# Altium integrated library Analog Devices Data Converters Digital-to-Analog Converters.IntLib: 2231 symbols (part 73 of 181)
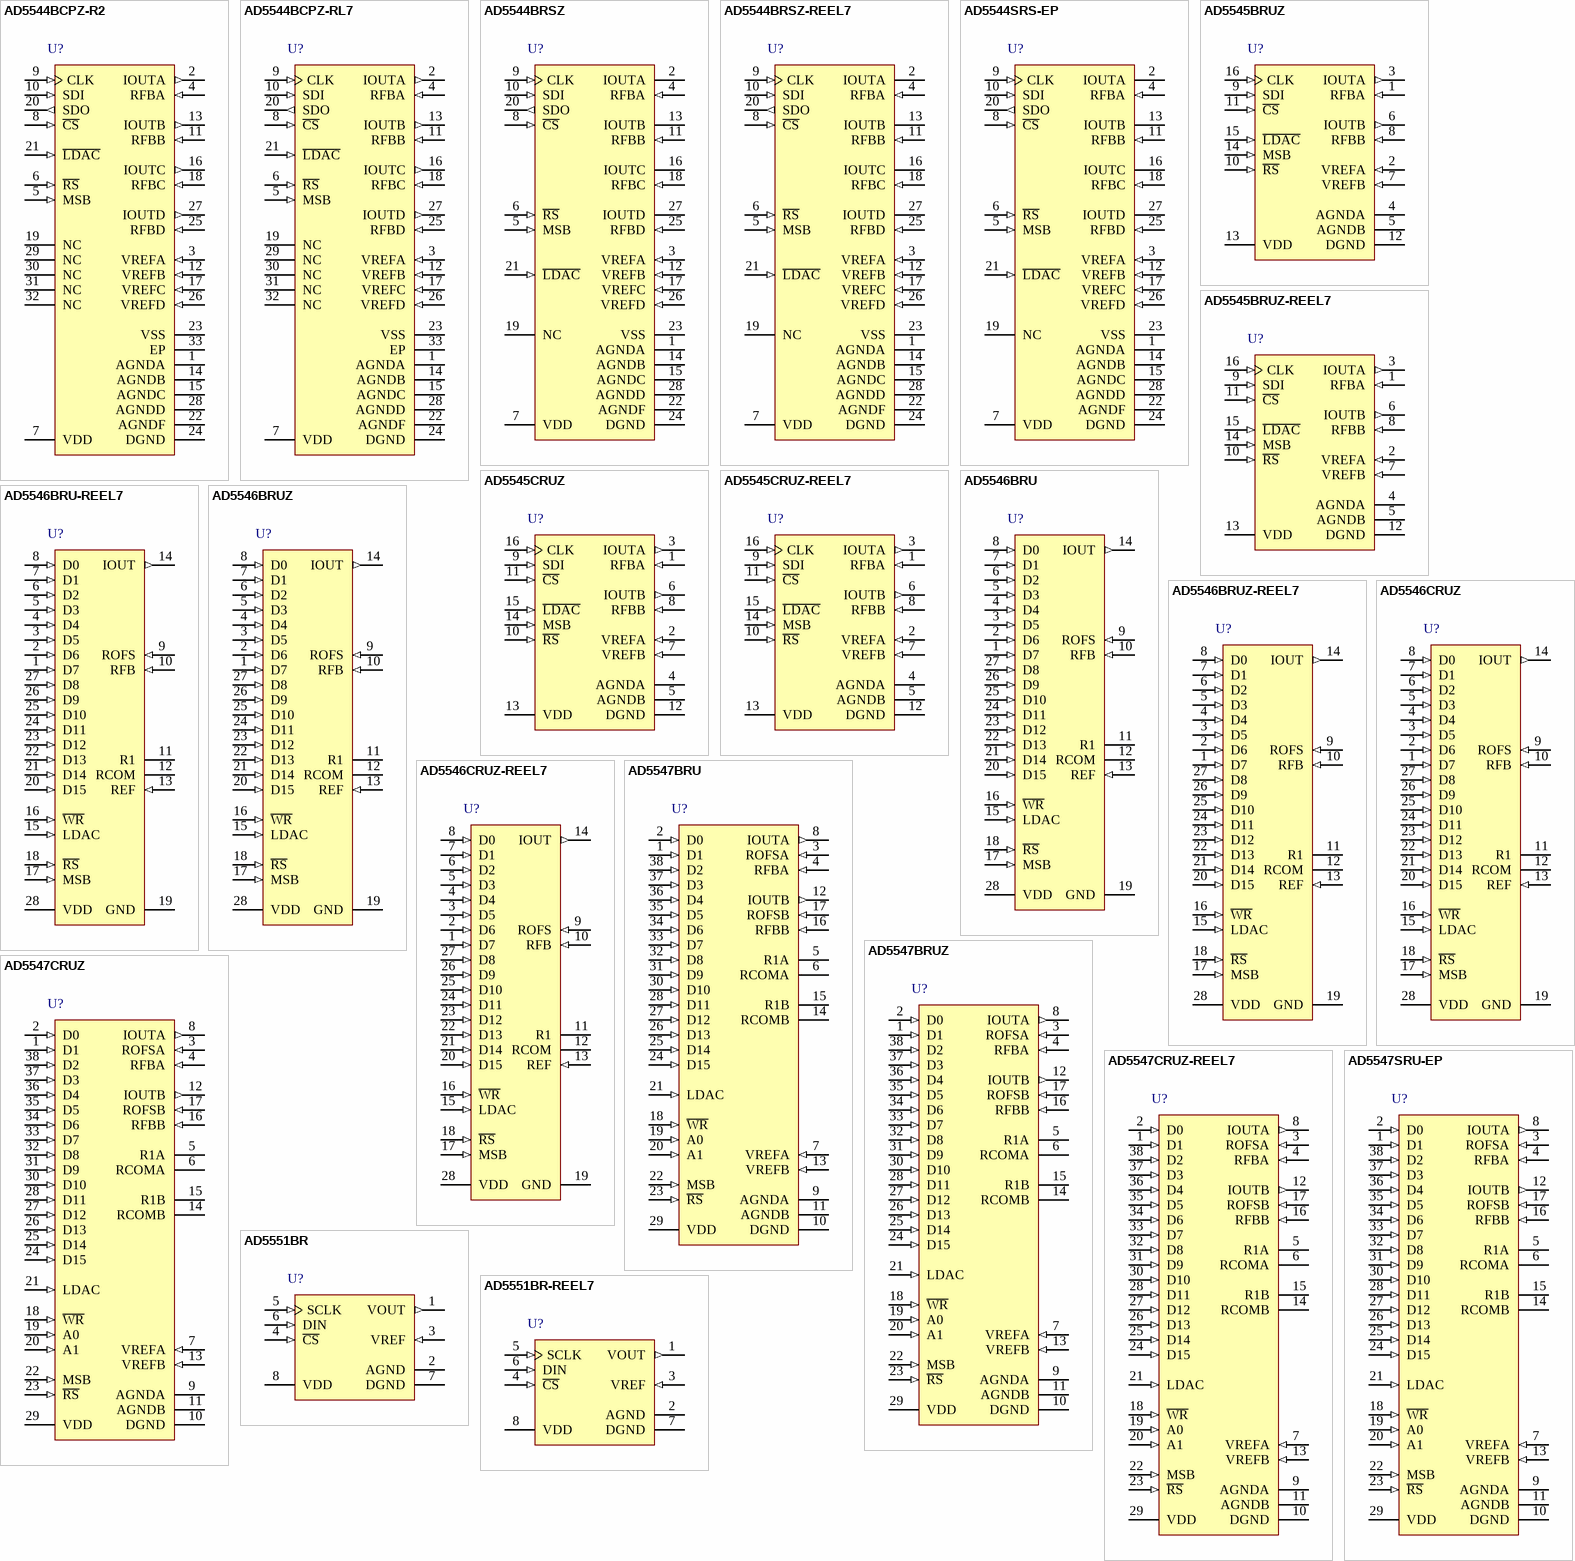
[diagram p186: symbols AD5544BCPZ-R2 to AD5551BR-REEL7]

## AD5546CRUZ
designator U?
Single 16-Bit Multiplying Current Output Digital-to-Analog Converter with Parallel Interface and Four-Quadrant Resistors, -40 to +125 degC, RU-28, Pb-Free, Tube; Generic Part Number: AD5546; Manufacturer: Analog Devices; PartNumber: AD5546CRUZ; # DAC Outputs: 1; Max V+: 5.5V; Op Pwr Diss: 55µW; Resolution (Bits): 16; Settling Time: 500ns; Single Supply: Yes; DatasheetVersion: Rev.D; PackageVersion: 2005; PackageReference: RU-28; PackageDescription: 28-Lead Thin Shrink Small Outline Package [TSSOP]; Supplier 1: Digi-Key; Supplier Part Number 1: AD5546CRUZ-ND; Supplier 2: Mouser; Supplier Part Number 2: 584-AD5546CRUZ; Packing: Tube; RoHS: Y; Mounting Technology: Surface Mount; Code_JEDEC: MO-153-AE; ComponentLink1Description: Manufacturer URL; ComponentLink1URL: http://www.analog.com/en/index.html; ComponentLink2Description: Datasheet; ComponentLink2URL: http://www.analog.com/static/imported-files/data_sheets/AD5546_5556.pdf; ComponentLink3Description: Package Specification; ComponentLink3URL: http://www.analog.com/static/imported-files/packages/249854663RU_28.pdf; ComponentLink4Description: Product URL; ComponentLink4URL: http://www.analog.com/en/digital-to-analog-converters/da-converters/ad5546/products/product.html; ComponentLink5Description: Reference Design URL; ComponentLink5URL: http://www.analog.com/en/digital-to-analog-converters/da-converters/ad5546/products/product.html#prod_cross_sell
footprint RU-28_N (TSOP, 28-Leads, Body 9.7x4.4mm, Pitch 0.65mm, IPC Medium Density)
footprint RU-28_L (TSOP, 28-Leads, Body 9.7x4.4mm, Pitch 0.65mm, IPC High Density)
footprint RU-28_M (TSOP, 28-Leads, Body 9.7x4.4mm, Pitch 0.65mm, IPC Low Density)
pins: 1 D7 (in) "Digital Input Data Bit D7. The signal level must be =< VDD + 0.3 V.", 2 D6 (in) "Digital Input Data Bit D6. The signal level must be =< VDD + 0.3 V.", 3 D5 (in) "Digital Input Data Bit D5. The signal level must be =< VDD + 0.3 V.", 4 D4 (in) "Digital Input Data Bit D4. The signal level must be =< VDD + 0.3 V.", 5 D3 (in) "Digital Input Data Bit D3. The signal level must be =< VDD + 0.3 V.", 6 D2 (in) "Digital Input Data Bit D2. The signal level must be =< VDD + 0.3 V.", 7 D1 (in) "Digital Input Data Bit D1. The signal level must be =< VDD + 0.3 V.", 8 D0 (in) "Digital Input Data Bit D0. The signal level must be =< VDD + 0.3 V.", 9 ROFS (in) "Bipolar Offset Resistor. Accepts up to +/-18 V. In two-quadrant mode, ties to RFB. In four-quadrant mode, ties to R1 and the external reference.", 10 RFB (in) "Internal Matching Feedback Resistor. Connects to the output of an external op amp for I-V conversion.", 11 R1 "Four-Quadrant Resistor R1. In two-quadrant mode, shorts to the REF pin. In four-quadrant mode, ties to ROFS.", 12 RCOM "Center Tap Point of Two Four-Quadrant Resistors, R1 and R2. In four-quadrant mode, ties to the inverting node of the reference amplifier. In two-quadrant mode, shorts to the REF pin.", 13 REF (in) "DAC Reference Input in Two-Quadrant Mode and R2 Terminal in Four-Quadrant Mode. In two-quadrant mode, this pin is the reference input with constant input resistance vs. code. In four-quadrant mode, this pin is driven by the (See Datasheet)", 14 IOUT (out) "DAC Current Output. Connects to the inverting node of an external op amp for I-V conversion.", 15 LDAC (in) "Digital Input Load DAC Control. Signal level must be =< VDD + 0.3 V.", 16 ~{WR} (in) "Write Control Digital Input in Active Low. Transfers shift-register data to the DAC register on the rising edge. The signal level must be . VDD + 0.3 V.", 17 MSB (in) "Power-On Reset State. MSB = 0 resets at zero scale; MSB = 1 resets at midscale. The signal level must be =< VDD + 0.3 V.", 18 ~{RS} (in) "Reset in Active Low. Resets to zero scale if MSB = 0, and resets to midscale if MSB = 1. The signal level must be =< VDD + 0.3 V.", 19 GND (power) "Analog and Digital Grounds.", 20 D15 (in) "Digital Input Data Bit D15. The signal level must be =< VDD + 0.3 V.", 21 D14 (in) "Digital Input Data Bit D14. The signal level must be =< VDD + 0.3 V.", 22 D13 (in) "Digital Input Data Bit D13. The signal level must be =< VDD + 0.3 V.", 23 D12 (in) "Digital Input Data Bit D12. The signal level must be =< VDD + 0.3 V.", 24 D11 (in) "Digital Input Data Bit D11. The signal level must be =< VDD + 0.3 V.", 25 D10 (in) "Digital Input Data Bit D10. The signal level must be =< VDD + 0.3 V.", 26 D9 (in) "Digital Input Data Bit D9. The signal level must be =< VDD + 0.3 V.", 27 D8 (in) "Digital Input Data Bit D8. The signal level must be =< VDD + 0.3 V.", 28 VDD (power) "Positive Power Supply Input. Specified range of operation: 2.7 V to 5.5 V."

## AD5546CRUZ-REEL7
designator U?
Single 16-Bit Multiplying Current Output Digital-to-Analog Converter with Parallel Interface and Four-Quadrant Resistors, -40 to +125 degC, RU-28, Pb-Free, Reel; Generic Part Number: AD5546; Manufacturer: Analog Devices; PartNumber: AD5546CRUZ-REEL7; # DAC Outputs: 1; Max V+: 5.5V; Op Pwr Diss: 55µW; Resolution (Bits): 16; Settling Time: 500ns; Single Supply: Yes; DatasheetVersion: Rev.D; PackageVersion: 2005; PackageReference: RU-28; PackageDescription: 28-Lead Thin Shrink Small Outline Package [TSSOP]; Supplier 1: Digi-Key; Supplier Part Number 1: AD5546CRUZ-REEL7-ND; Supplier 2: Mouser; Supplier Part Number 2: 584-AD5546CRUZ-R7; Packing: Reel; RoHS: Y; Mounting Technology: Surface Mount; Code_JEDEC: MO-153-AE; ComponentLink1Description: Manufacturer URL; ComponentLink1URL: http://www.analog.com/en/index.html; ComponentLink2Description: Datasheet; ComponentLink2URL: http://www.analog.com/static/imported-files/data_sheets/AD5546_5556.pdf; ComponentLink3Description: Package Specification; ComponentLink3URL: http://www.analog.com/static/imported-files/packages/249854663RU_28.pdf; ComponentLink4Description: Product URL; ComponentLink4URL: http://www.analog.com/en/digital-to-analog-converters/da-converters/ad5546/products/product.html; ComponentLink5Description: Reference Design URL; ComponentLink5URL: http://www.analog.com/en/digital-to-analog-converters/da-converters/ad5546/products/product.html#prod_cross_sell
footprint RU-28_N (TSOP, 28-Leads, Body 9.7x4.4mm, Pitch 0.65mm, IPC Medium Density)
footprint RU-28_L (TSOP, 28-Leads, Body 9.7x4.4mm, Pitch 0.65mm, IPC High Density)
footprint RU-28_M (TSOP, 28-Leads, Body 9.7x4.4mm, Pitch 0.65mm, IPC Low Density)
pins: 1 D7 (in) "Digital Input Data Bit D7. The signal level must be =< VDD + 0.3 V.", 2 D6 (in) "Digital Input Data Bit D6. The signal level must be =< VDD + 0.3 V.", 3 D5 (in) "Digital Input Data Bit D5. The signal level must be =< VDD + 0.3 V.", 4 D4 (in) "Digital Input Data Bit D4. The signal level must be =< VDD + 0.3 V.", 5 D3 (in) "Digital Input Data Bit D3. The signal level must be =< VDD + 0.3 V.", 6 D2 (in) "Digital Input Data Bit D2. The signal level must be =< VDD + 0.3 V.", 7 D1 (in) "Digital Input Data Bit D1. The signal level must be =< VDD + 0.3 V.", 8 D0 (in) "Digital Input Data Bit D0. The signal level must be =< VDD + 0.3 V.", 9 ROFS (in) "Bipolar Offset Resistor. Accepts up to +/-18 V. In two-quadrant mode, ties to RFB. In four-quadrant mode, ties to R1 and the external reference.", 10 RFB (in) "Internal Matching Feedback Resistor. Connects to the output of an external op amp for I-V conversion.", 11 R1 "Four-Quadrant Resistor R1. In two-quadrant mode, shorts to the REF pin. In four-quadrant mode, ties to ROFS.", 12 RCOM "Center Tap Point of Two Four-Quadrant Resistors, R1 and R2. In four-quadrant mode, ties to the inverting node of the reference amplifier. In two-quadrant mode, shorts to the REF pin.", 13 REF (in) "DAC Reference Input in Two-Quadrant Mode and R2 Terminal in Four-Quadrant Mode. In two-quadrant mode, this pin is the reference input with constant input resistance vs. code. In four-quadrant mode, this pin is driven by the (See Datasheet)", 14 IOUT (out) "DAC Current Output. Connects to the inverting node of an external op amp for I-V conversion.", 15 LDAC (in) "Digital Input Load DAC Control. Signal level must be =< VDD + 0.3 V.", 16 ~{WR} (in) "Write Control Digital Input in Active Low. Transfers shift-register data to the DAC register on the rising edge. The signal level must be . VDD + 0.3 V.", 17 MSB (in) "Power-On Reset State. MSB = 0 resets at zero scale; MSB = 1 resets at midscale. The signal level must be =< VDD + 0.3 V.", 18 ~{RS} (in) "Reset in Active Low. Resets to zero scale if MSB = 0, and resets to midscale if MSB = 1. The signal level must be =< VDD + 0.3 V.", 19 GND (power) "Analog and Digital Grounds.", 20 D15 (in) "Digital Input Data Bit D15. The signal level must be =< VDD + 0.3 V.", 21 D14 (in) "Digital Input Data Bit D14. The signal level must be =< VDD + 0.3 V.", 22 D13 (in) "Digital Input Data Bit D13. The signal level must be =< VDD + 0.3 V.", 23 D12 (in) "Digital Input Data Bit D12. The signal level must be =< VDD + 0.3 V.", 24 D11 (in) "Digital Input Data Bit D11. The signal level must be =< VDD + 0.3 V.", 25 D10 (in) "Digital Input Data Bit D10. The signal level must be =< VDD + 0.3 V.", 26 D9 (in) "Digital Input Data Bit D9. The signal level must be =< VDD + 0.3 V.", 27 D8 (in) "Digital Input Data Bit D8. The signal level must be =< VDD + 0.3 V.", 28 VDD (power) "Positive Power Supply Input. Specified range of operation: 2.7 V to 5.5 V."

## AD5547BRU
designator U?
Dual 16-Bit Multiplying Dual Current Output Digital-to-Analog Converter with Parallel Interface, -40 to +125 degC, RU-38, Tube; Generic Part Number: AD5547; Manufacturer: Analog Devices; PartNumber: AD5547BRU; # DAC Outputs: 2; Max V+: 5.5V; Op Pwr Diss: 55µW; Resolution (Bits): 16; Settling Time: 500ns; Single Supply: Yes; DatasheetVersion: Rev.C; PackageVersion: Mar-2003; PackageReference: RU-38; PackageDescription: 38-Lead Thin Shrink Small Outline Package [TSSOP]; Supplier 1: Digi-Key; Supplier Part Number 1: AD5547BRU-ND; Supplier 2: Mouser; Supplier Part Number 2: 584-AD5547BRU; Packing: Tube; RoHS: N; Mounting Technology: Surface Mount; Code_JEDEC: MS-153BD-1; ComponentLink1Description: Manufacturer URL; ComponentLink1URL: http://www.analog.com/en/index.html; ComponentLink2Description: Datasheet; ComponentLink2URL: http://www.analog.com/static/imported-files/data_sheets/AD5547_5557.pdf; ComponentLink3Description: Package Specification; ComponentLink3URL: http://www.analog.com/static/imported-files/packages/36817415413609854197792024125RU38.pdf; ComponentLink4Description: Product URL; ComponentLink4URL: http://www.analog.com/en/digital-to-analog-converters/da-converters/ad5547/products/product.html; ComponentLink5Description: Reference Design URL; ComponentLink5URL: http://www.analog.com/en/digital-to-analog-converters/da-converters/ad5547/products/product.html#prod_cross_sell
footprint RU-38_N (TSSOP, 38-Leads, Body 9.7x4.4mm, Pitch 0.5mm, IPC Medium Density)
footprint RU-38_L (TSSOP, 38-Leads, Body 9.7x4.4mm, Pitch 0.5mm, IPC High Density)
footprint RU-38_M (TSSOP, 38-Leads, Body 9.7x4.4mm, Pitch 0.5mm, IPC Low Density)
pins: 1 D1 (in) "Digital Input Data Bit D1. Signal level must be =< VDD + 0.3 V.", 2 D0 (in) "Digital Input Data Bit D0. Signal level must be =< VDD + 0.3 V.", 3 ROFSA (in) "Bipolar Offset Resistor A. Accepts up to +/-18 V. In 2-quadrant mode, ROFSA ties to RFBA. In 4-quadrant mode, ROFSA ties to R1A and the external reference.", 4 RFBA (in) "Internal Matching Feedback Resistor A. Connects to the external op amp for I-to-V conversion.", 5 R1A "4-Quandrant Resistor. In 2-quadrant mode, R1A shorts to the VREFA pin. In 4-quadrant mode, R1A ties to ROFSA. Do not connect when operating in unipolar mode.", 6 RCOMA "Center Tap Point of the Two 4-Quadrant Resistors, R1A and R2A. In 4-quadrant mode, RCOMA ties to the inverting node of the reference amplifier. In 2-quadrant mode, RCOMA shorts to the associated VREFA pin. Do not connect if (See Datasheet)", 7 VREFA (in) "DAC A Reference Input in 2-Quadrant Mode, R2 Terminal in 4-Quadrant Mode. In 2-quadrant mode, VREFA is the reference input with constant input resistance vs. code. In 4-quadrant mode, VREFA is driven by the external (See Datasheet)", 8 IOUTA (out) "DAC A Current Output. Connects to the inverting terminal of external precision I-to-V op amp for voltage output.", 9 AGNDA (power) "DAC A Analog Ground.", 10 DGND (power) "Digital Ground.", 11 AGNDB (power) "DAC B Analog Ground.", 12 IOUTB (out) "DAC B Current Output. Connects to inverting terminal of external precision I-to-V op amp for voltage output.", 13 VREFB (in) "DAC B Reference Input Pin. Establishes DAC full-scale voltage. Constant input resistance vs. code. If configured with an external op amp for 4-quadrant multiplying, VREFB becomes -VREF.", 14 RCOMB "Center Tap Point of the Two 4-Quadrant Resistors, R1B and R2B. In 4-quadrant mode, RCOMB ties to the inverting node of the reference amplifier. In 2-quadrant mode, RCOMB shorts to the VREFB pin. Do not connect if operating (See Datasheet)", 15 R1B "4-Quandrant Resistor. In 2-quadrant mode, R1B shorts to the VREFB pin. In 4-quadrant mode, R1B ties to ROFSB. Do not connect if operating in unipolar mode.", 16 RFBB (in) "Internal Matching Feedback Resistor B. Connects to external op amp for I-to-V conversion.", 17 ROFSB (in) "Bipolar Offset Resistor B. Accepts up to +/-18 V. In 2-quadrant mode, ROFSB ties to RFBB. In 4-quadrant mode, ROFSB ties to R1B and an external reference.", 18 ~{WR} (in) "Write Control Digital Input In, Active Low. W\R\ transfers shift register data to the DAC register on the rising edge. Signal level must be =<VDD + 0.3 V.", 19 A0 (in) "Address Pin 0. Signal level must be =<VDD + 0.3 V.", 20 A1 (in) "Address Pin 1. Signal level must be =<VDD + 0.3 V.", 21 LDAC (in) "Digital Input Load DAC Control. Signal level must be =<VDD + 0.3 V.", 22 MSB (in) "Power-On Reset State. MSB = 0 corresponds to zero-scale reset; MSB = 1 corresponds to midscale reset. The signal level must be =<VDD + 0.3 V.", 23 ~{RS} (in) "Active low resets both input and DAC registers. Resets to zero-scale if MSB = 0 and resets to midscale if MSB = 1. Signal level must be =<VDD + 0.3 V.", 24 D15 (in) "Digital Input Data Bit D15. Signal level must be =< VDD + 0.3 V.", 25 D14 (in) "Digital Input Data Bit D14. Signal level must be =< VDD + 0.3 V.", 26 D13 (in) "Digital Input Data Bit D13. Signal level must be =< VDD + 0.3 V.", 27 D12 (in) "Digital Input Data Bit D12. Signal level must be =< VDD + 0.3 V.", 28 D11 (in) "Digital Input Data Bit D11. Signal level must be =< VDD + 0.3 V.", 29 VDD (power) "Positive Power Supply Input. The specified range of operation is 2.7 V to 5.5 V.", 30 D10 (in) "Digital Input Data Bit D10. Signal level must be =< VDD + 0.3 V.", 31 D9 (in) "Digital Input Data Bit D9. Signal level must be =< VDD + 0.3 V.", 32 D8 (in) "Digital Input Data Bit D8. Signal level must be =< VDD + 0.3 V.", 33 D7 (in) "Digital Input Data Bit D7. Signal level must be =< VDD + 0.3 V.", 34 D6 (in) "Digital Input Data Bit D6. Signal level must be =< VDD + 0.3 V.", 35 D5 (in) "Digital Input Data Bit D5. Signal level must be =< VDD + 0.3 V.", 36 D4 (in) "Digital Input Data Bit D4. Signal level must be =< VDD + 0.3 V.", 37 D3 (in) "Digital Input Data Bit D3. Signal level must be =< VDD + 0.3 V.", 38 D2 (in) "Digital Input Data Bit D2. Signal level must be =< VDD + 0.3 V."

## AD5547BRUZ
designator U?
Dual 16-Bit Multiplying Dual Current Output Digital-to-Analog Converter with Parallel Interface, -40 to +125 degC, RU-38, Pb-Free, Tube; Generic Part Number: AD5547; Manufacturer: Analog Devices; PartNumber: AD5547BRUZ; # DAC Outputs: 2; Max V+: 5.5V; Op Pwr Diss: 55µW; Resolution (Bits): 16; Settling Time: 500ns; Single Supply: Yes; DatasheetVersion: Rev.C; PackageVersion: Mar-2003; PackageReference: RU-38; PackageDescription: 38-Lead Thin Shrink Small Outline Package [TSSOP]; Supplier 1: Digi-Key; Supplier Part Number 1: AD5547BRUZ-ND; Supplier 2: Farnell; Supplier Part Number 2: 1078348; Supplier 3: Newark; Supplier Part Number 3: 19M8817; Supplier 4: Mouser; Supplier Part Number 4: 584-AD5547BRUZ; Packing: Tube; RoHS: Y; Mounting Technology: Surface Mount; Code_JEDEC: MS-153BD-1; ComponentLink1Description: Manufacturer URL; ComponentLink1URL: http://www.analog.com/en/index.html; ComponentLink2Description: Datasheet; ComponentLink2URL: http://www.analog.com/static/imported-files/data_sheets/AD5547_5557.pdf; ComponentLink3Description: Package Specification; ComponentLink3URL: http://www.analog.com/static/imported-files/packages/36817415413609854197792024125RU38.pdf; ComponentLink4Description: Product URL; ComponentLink4URL: http://www.analog.com/en/digital-to-analog-converters/da-converters/ad5547/products/product.html; ComponentLink5Description: Reference Design URL; ComponentLink5URL: http://www.analog.com/en/digital-to-analog-converters/da-converters/ad5547/products/product.html#prod_cross_sell
footprint RU-38_N (TSSOP, 38-Leads, Body 9.7x4.4mm, Pitch 0.5mm, IPC Medium Density)
footprint RU-38_L (TSSOP, 38-Leads, Body 9.7x4.4mm, Pitch 0.5mm, IPC High Density)
footprint RU-38_M (TSSOP, 38-Leads, Body 9.7x4.4mm, Pitch 0.5mm, IPC Low Density)
pins: 1 D1 (in) "Digital Input Data Bit D1. Signal level must be =< VDD + 0.3 V.", 2 D0 (in) "Digital Input Data Bit D0. Signal level must be =< VDD + 0.3 V.", 3 ROFSA (in) "Bipolar Offset Resistor A. Accepts up to +/-18 V. In 2-quadrant mode, ROFSA ties to RFBA. In 4-quadrant mode, ROFSA ties to R1A and the external reference.", 4 RFBA (in) "Internal Matching Feedback Resistor A. Connects to the external op amp for I-to-V conversion.", 5 R1A "4-Quandrant Resistor. In 2-quadrant mode, R1A shorts to the VREFA pin. In 4-quadrant mode, R1A ties to ROFSA. Do not connect when operating in unipolar mode.", 6 RCOMA "Center Tap Point of the Two 4-Quadrant Resistors, R1A and R2A. In 4-quadrant mode, RCOMA ties to the inverting node of the reference amplifier. In 2-quadrant mode, RCOMA shorts to the associated VREFA pin. Do not connect if (See Datasheet)", 7 VREFA (in) "DAC A Reference Input in 2-Quadrant Mode, R2 Terminal in 4-Quadrant Mode. In 2-quadrant mode, VREFA is the reference input with constant input resistance vs. code. In 4-quadrant mode, VREFA is driven by the external (See Datasheet)", 8 IOUTA (out) "DAC A Current Output. Connects to the inverting terminal of external precision I-to-V op amp for voltage output.", 9 AGNDA (power) "DAC A Analog Ground.", 10 DGND (power) "Digital Ground.", 11 AGNDB (power) "DAC B Analog Ground.", 12 IOUTB (out) "DAC B Current Output. Connects to inverting terminal of external precision I-to-V op amp for voltage output.", 13 VREFB (in) "DAC B Reference Input Pin. Establishes DAC full-scale voltage. Constant input resistance vs. code. If configured with an external op amp for 4-quadrant multiplying, VREFB becomes -VREF.", 14 RCOMB "Center Tap Point of the Two 4-Quadrant Resistors, R1B and R2B. In 4-quadrant mode, RCOMB ties to the inverting node of the reference amplifier. In 2-quadrant mode, RCOMB shorts to the VREFB pin. Do not connect if operating (See Datasheet)", 15 R1B "4-Quandrant Resistor. In 2-quadrant mode, R1B shorts to the VREFB pin. In 4-quadrant mode, R1B ties to ROFSB. Do not connect if operating in unipolar mode.", 16 RFBB (in) "Internal Matching Feedback Resistor B. Connects to external op amp for I-to-V conversion.", 17 ROFSB (in) "Bipolar Offset Resistor B. Accepts up to +/-18 V. In 2-quadrant mode, ROFSB ties to RFBB. In 4-quadrant mode, ROFSB ties to R1B and an external reference.", 18 ~{WR} (in) "Write Control Digital Input In, Active Low. W\R\ transfers shift register data to the DAC register on the rising edge. Signal level must be =<VDD + 0.3 V.", 19 A0 (in) "Address Pin 0. Signal level must be =<VDD + 0.3 V.", 20 A1 (in) "Address Pin 1. Signal level must be =<VDD + 0.3 V.", 21 LDAC (in) "Digital Input Load DAC Control. Signal level must be =<VDD + 0.3 V.", 22 MSB (in) "Power-On Reset State. MSB = 0 corresponds to zero-scale reset; MSB = 1 corresponds to midscale reset. The signal level must be =<VDD + 0.3 V.", 23 ~{RS} (in) "Active low resets both input and DAC registers. Resets to zero-scale if MSB = 0 and resets to midscale if MSB = 1. Signal level must be =<VDD + 0.3 V.", 24 D15 (in) "Digital Input Data Bit D15. Signal level must be =< VDD + 0.3 V.", 25 D14 (in) "Digital Input Data Bit D14. Signal level must be =< VDD + 0.3 V.", 26 D13 (in) "Digital Input Data Bit D13. Signal level must be =< VDD + 0.3 V.", 27 D12 (in) "Digital Input Data Bit D12. Signal level must be =< VDD + 0.3 V.", 28 D11 (in) "Digital Input Data Bit D11. Signal level must be =< VDD + 0.3 V.", 29 VDD (power) "Positive Power Supply Input. The specified range of operation is 2.7 V to 5.5 V.", 30 D10 (in) "Digital Input Data Bit D10. Signal level must be =< VDD + 0.3 V.", 31 D9 (in) "Digital Input Data Bit D9. Signal level must be =< VDD + 0.3 V.", 32 D8 (in) "Digital Input Data Bit D8. Signal level must be =< VDD + 0.3 V.", 33 D7 (in) "Digital Input Data Bit D7. Signal level must be =< VDD + 0.3 V.", 34 D6 (in) "Digital Input Data Bit D6. Signal level must be =< VDD + 0.3 V.", 35 D5 (in) "Digital Input Data Bit D5. Signal level must be =< VDD + 0.3 V.", 36 D4 (in) "Digital Input Data Bit D4. Signal level must be =< VDD + 0.3 V.", 37 D3 (in) "Digital Input Data Bit D3. Signal level must be =< VDD + 0.3 V.", 38 D2 (in) "Digital Input Data Bit D2. Signal level must be =< VDD + 0.3 V."

## AD5547CRUZ
designator U?
Dual 16-Bit Multiplying Dual Current Output Digital-to-Analog Converter with Parallel Interface, -40 to +125 degC, RU-38, Pb-Free, Tube; Generic Part Number: AD5547; Manufacturer: Analog Devices; PartNumber: AD5547CRUZ; # DAC Outputs: 2; Max V+: 5.5V; Op Pwr Diss: 55µW; Resolution (Bits): 16; Settling Time: 500ns; Single Supply: Yes; DatasheetVersion: Rev.C; PackageVersion: Mar-2003; PackageReference: RU-38; PackageDescription: 38-Lead Thin Shrink Small Outline Package [TSSOP]; Supplier 1: Digi-Key; Supplier Part Number 1: AD5547CRUZ-ND; Supplier 2: Farnell; Supplier Part Number 2: 2312767; Supplier 3: Newark; Supplier Part Number 3: 51R0726; Packing: Tube; RoHS: Y; Mounting Technology: Surface Mount; Code_JEDEC: MS-153BD-1; ComponentLink1Description: Manufacturer URL; ComponentLink1URL: http://www.analog.com/en/index.html; ComponentLink2Description: Datasheet; ComponentLink2URL: http://www.analog.com/static/imported-files/data_sheets/AD5547_5557.pdf; ComponentLink3Description: Package Specification; ComponentLink3URL: http://www.analog.com/static/imported-files/packages/36817415413609854197792024125RU38.pdf; ComponentLink4Description: Product URL; ComponentLink4URL: http://www.analog.com/en/digital-to-analog-converters/da-converters/ad5547/products/product.html; ComponentLink5Description: Reference Design URL; ComponentLink5URL: http://www.analog.com/en/digital-to-analog-converters/da-converters/ad5547/products/product.html#prod_cross_sell
footprint RU-38_N (TSSOP, 38-Leads, Body 9.7x4.4mm, Pitch 0.5mm, IPC Medium Density)
footprint RU-38_L (TSSOP, 38-Leads, Body 9.7x4.4mm, Pitch 0.5mm, IPC High Density)
footprint RU-38_M (TSSOP, 38-Leads, Body 9.7x4.4mm, Pitch 0.5mm, IPC Low Density)
pins: 1 D1 (in) "Digital Input Data Bit D1. Signal level must be =< VDD + 0.3 V.", 2 D0 (in) "Digital Input Data Bit D0. Signal level must be =< VDD + 0.3 V.", 3 ROFSA (in) "Bipolar Offset Resistor A. Accepts up to +/-18 V. In 2-quadrant mode, ROFSA ties to RFBA. In 4-quadrant mode, ROFSA ties to R1A and the external reference.", 4 RFBA (in) "Internal Matching Feedback Resistor A. Connects to the external op amp for I-to-V conversion.", 5 R1A "4-Quandrant Resistor. In 2-quadrant mode, R1A shorts to the VREFA pin. In 4-quadrant mode, R1A ties to ROFSA. Do not connect when operating in unipolar mode.", 6 RCOMA "Center Tap Point of the Two 4-Quadrant Resistors, R1A and R2A. In 4-quadrant mode, RCOMA ties to the inverting node of the reference amplifier. In 2-quadrant mode, RCOMA shorts to the associated VREFA pin. Do not connect if (See Datasheet)", 7 VREFA (in) "DAC A Reference Input in 2-Quadrant Mode, R2 Terminal in 4-Quadrant Mode. In 2-quadrant mode, VREFA is the reference input with constant input resistance vs. code. In 4-quadrant mode, VREFA is driven by the external (See Datasheet)", 8 IOUTA (out) "DAC A Current Output. Connects to the inverting terminal of external precision I-to-V op amp for voltage output.", 9 AGNDA (power) "DAC A Analog Ground.", 10 DGND (power) "Digital Ground.", 11 AGNDB (power) "DAC B Analog Ground.", 12 IOUTB (out) "DAC B Current Output. Connects to inverting terminal of external precision I-to-V op amp for voltage output.", 13 VREFB (in) "DAC B Reference Input Pin. Establishes DAC full-scale voltage. Constant input resistance vs. code. If configured with an external op amp for 4-quadrant multiplying, VREFB becomes -VREF.", 14 RCOMB "Center Tap Point of the Two 4-Quadrant Resistors, R1B and R2B. In 4-quadrant mode, RCOMB ties to the inverting node of the reference amplifier. In 2-quadrant mode, RCOMB shorts to the VREFB pin. Do not connect if operating (See Datasheet)", 15 R1B "4-Quandrant Resistor. In 2-quadrant mode, R1B shorts to the VREFB pin. In 4-quadrant mode, R1B ties to ROFSB. Do not connect if operating in unipolar mode.", 16 RFBB (in) "Internal Matching Feedback Resistor B. Connects to external op amp for I-to-V conversion.", 17 ROFSB (in) "Bipolar Offset Resistor B. Accepts up to +/-18 V. In 2-quadrant mode, ROFSB ties to RFBB. In 4-quadrant mode, ROFSB ties to R1B and an external reference.", 18 ~{WR} (in) "Write Control Digital Input In, Active Low. W\R\ transfers shift register data to the DAC register on the rising edge. Signal level must be =<VDD + 0.3 V.", 19 A0 (in) "Address Pin 0. Signal level must be =<VDD + 0.3 V.", 20 A1 (in) "Address Pin 1. Signal level must be =<VDD + 0.3 V.", 21 LDAC (in) "Digital Input Load DAC Control. Signal level must be =<VDD + 0.3 V.", 22 MSB (in) "Power-On Reset State. MSB = 0 corresponds to zero-scale reset; MSB = 1 corresponds to midscale reset. The signal level must be =<VDD + 0.3 V.", 23 ~{RS} (in) "Active low resets both input and DAC registers. Resets to zero-scale if MSB = 0 and resets to midscale if MSB = 1. Signal level must be =<VDD + 0.3 V.", 24 D15 (in) "Digital Input Data Bit D15. Signal level must be =< VDD + 0.3 V.", 25 D14 (in) "Digital Input Data Bit D14. Signal level must be =< VDD + 0.3 V.", 26 D13 (in) "Digital Input Data Bit D13. Signal level must be =< VDD + 0.3 V.", 27 D12 (in) "Digital Input Data Bit D12. Signal level must be =< VDD + 0.3 V.", 28 D11 (in) "Digital Input Data Bit D11. Signal level must be =< VDD + 0.3 V.", 29 VDD (power) "Positive Power Supply Input. The specified range of operation is 2.7 V to 5.5 V.", 30 D10 (in) "Digital Input Data Bit D10. Signal level must be =< VDD + 0.3 V.", 31 D9 (in) "Digital Input Data Bit D9. Signal level must be =< VDD + 0.3 V.", 32 D8 (in) "Digital Input Data Bit D8. Signal level must be =< VDD + 0.3 V.", 33 D7 (in) "Digital Input Data Bit D7. Signal level must be =< VDD + 0.3 V.", 34 D6 (in) "Digital Input Data Bit D6. Signal level must be =< VDD + 0.3 V.", 35 D5 (in) "Digital Input Data Bit D5. Signal level must be =< VDD + 0.3 V.", 36 D4 (in) "Digital Input Data Bit D4. Signal level must be =< VDD + 0.3 V.", 37 D3 (in) "Digital Input Data Bit D3. Signal level must be =< VDD + 0.3 V.", 38 D2 (in) "Digital Input Data Bit D2. Signal level must be =< VDD + 0.3 V."

## AD5547CRUZ-REEL7
designator U?
Dual 16-Bit Multiplying Dual Current Output Digital-to-Analog Converter with Parallel Interface, -40 to +125 degC, RU-38, Pb-Free, Reel; Generic Part Number: AD5547; Manufacturer: Analog Devices; PartNumber: AD5547CRUZ-REEL7; # DAC Outputs: 2; Max V+: 5.5V; Op Pwr Diss: 55µW; Resolution (Bits): 16; Settling Time: 500ns; Single Supply: Yes; DatasheetVersion: Rev.C; PackageVersion: Mar-2003; PackageReference: RU-38; PackageDescription: 38-Lead Thin Shrink Small Outline Package [TSSOP]; Supplier 1: Digi-Key; Supplier Part Number 1: AD5547CRUZ-REEL7-ND; Supplier 2: Mouser; Supplier Part Number 2: 584-AD5547CRUZ-R7; Packing: Reel; RoHS: Y; Mounting Technology: Surface Mount; Code_JEDEC: MS-153BD-1; ComponentLink1Description: Manufacturer URL; ComponentLink1URL: http://www.analog.com/en/index.html; ComponentLink2Description: Datasheet; ComponentLink2URL: http://www.analog.com/static/imported-files/data_sheets/AD5547_5557.pdf; ComponentLink3Description: Package Specification; ComponentLink3URL: http://www.analog.com/static/imported-files/packages/36817415413609854197792024125RU38.pdf; ComponentLink4Description: Product URL; ComponentLink4URL: http://www.analog.com/en/digital-to-analog-converters/da-converters/ad5547/products/product.html; ComponentLink5Description: Reference Design URL; ComponentLink5URL: http://www.analog.com/en/digital-to-analog-converters/da-converters/ad5547/products/product.html#prod_cross_sell
footprint RU-38_N (TSSOP, 38-Leads, Body 9.7x4.4mm, Pitch 0.5mm, IPC Medium Density)
footprint RU-38_L (TSSOP, 38-Leads, Body 9.7x4.4mm, Pitch 0.5mm, IPC High Density)
footprint RU-38_M (TSSOP, 38-Leads, Body 9.7x4.4mm, Pitch 0.5mm, IPC Low Density)
pins: 1 D1 (in) "Digital Input Data Bit D1. Signal level must be =< VDD + 0.3 V.", 2 D0 (in) "Digital Input Data Bit D0. Signal level must be =< VDD + 0.3 V.", 3 ROFSA (in) "Bipolar Offset Resistor A. Accepts up to +/-18 V. In 2-quadrant mode, ROFSA ties to RFBA. In 4-quadrant mode, ROFSA ties to R1A and the external reference.", 4 RFBA (in) "Internal Matching Feedback Resistor A. Connects to the external op amp for I-to-V conversion.", 5 R1A "4-Quandrant Resistor. In 2-quadrant mode, R1A shorts to the VREFA pin. In 4-quadrant mode, R1A ties to ROFSA. Do not connect when operating in unipolar mode.", 6 RCOMA "Center Tap Point of the Two 4-Quadrant Resistors, R1A and R2A. In 4-quadrant mode, RCOMA ties to the inverting node of the reference amplifier. In 2-quadrant mode, RCOMA shorts to the associated VREFA pin. Do not connect if (See Datasheet)", 7 VREFA (in) "DAC A Reference Input in 2-Quadrant Mode, R2 Terminal in 4-Quadrant Mode. In 2-quadrant mode, VREFA is the reference input with constant input resistance vs. code. In 4-quadrant mode, VREFA is driven by the external (See Datasheet)", 8 IOUTA (out) "DAC A Current Output. Connects to the inverting terminal of external precision I-to-V op amp for voltage output.", 9 AGNDA (power) "DAC A Analog Ground.", 10 DGND (power) "Digital Ground.", 11 AGNDB (power) "DAC B Analog Ground.", 12 IOUTB (out) "DAC B Current Output. Connects to inverting terminal of external precision I-to-V op amp for voltage output.", 13 VREFB (in) "DAC B Reference Input Pin. Establishes DAC full-scale voltage. Constant input resistance vs. code. If configured with an external op amp for 4-quadrant multiplying, VREFB becomes -VREF.", 14 RCOMB "Center Tap Point of the Two 4-Quadrant Resistors, R1B and R2B. In 4-quadrant mode, RCOMB ties to the inverting node of the reference amplifier. In 2-quadrant mode, RCOMB shorts to the VREFB pin. Do not connect if operating (See Datasheet)", 15 R1B "4-Quandrant Resistor. In 2-quadrant mode, R1B shorts to the VREFB pin. In 4-quadrant mode, R1B ties to ROFSB. Do not connect if operating in unipolar mode.", 16 RFBB (in) "Internal Matching Feedback Resistor B. Connects to external op amp for I-to-V conversion.", 17 ROFSB (in) "Bipolar Offset Resistor B. Accepts up to +/-18 V. In 2-quadrant mode, ROFSB ties to RFBB. In 4-quadrant mode, ROFSB ties to R1B and an external reference.", 18 ~{WR} (in) "Write Control Digital Input In, Active Low. W\R\ transfers shift register data to the DAC register on the rising edge. Signal level must be =<VDD + 0.3 V.", 19 A0 (in) "Address Pin 0. Signal level must be =<VDD + 0.3 V.", 20 A1 (in) "Address Pin 1. Signal level must be =<VDD + 0.3 V.", 21 LDAC (in) "Digital Input Load DAC Control. Signal level must be =<VDD + 0.3 V.", 22 MSB (in) "Power-On Reset State. MSB = 0 corresponds to zero-scale reset; MSB = 1 corresponds to midscale reset. The signal level must be =<VDD + 0.3 V.", 23 ~{RS} (in) "Active low resets both input and DAC registers. Resets to zero-scale if MSB = 0 and resets to midscale if MSB = 1. Signal level must be =<VDD + 0.3 V.", 24 D15 (in) "Digital Input Data Bit D15. Signal level must be =< VDD + 0.3 V.", 25 D14 (in) "Digital Input Data Bit D14. Signal level must be =< VDD + 0.3 V.", 26 D13 (in) "Digital Input Data Bit D13. Signal level must be =< VDD + 0.3 V.", 27 D12 (in) "Digital Input Data Bit D12. Signal level must be =< VDD + 0.3 V.", 28 D11 (in) "Digital Input Data Bit D11. Signal level must be =< VDD + 0.3 V.", 29 VDD (power) "Positive Power Supply Input. The specified range of operation is 2.7 V to 5.5 V.", 30 D10 (in) "Digital Input Data Bit D10. Signal level must be =< VDD + 0.3 V.", 31 D9 (in) "Digital Input Data Bit D9. Signal level must be =< VDD + 0.3 V.", 32 D8 (in) "Digital Input Data Bit D8. Signal level must be =< VDD + 0.3 V.", 33 D7 (in) "Digital Input Data Bit D7. Signal level must be =< VDD + 0.3 V.", 34 D6 (in) "Digital Input Data Bit D6. Signal level must be =< VDD + 0.3 V.", 35 D5 (in) "Digital Input Data Bit D5. Signal level must be =< VDD + 0.3 V.", 36 D4 (in) "Digital Input Data Bit D4. Signal level must be =< VDD + 0.3 V.", 37 D3 (in) "Digital Input Data Bit D3. Signal level must be =< VDD + 0.3 V.", 38 D2 (in) "Digital Input Data Bit D2. Signal level must be =< VDD + 0.3 V."

## AD5547SRU-EP
designator U?
Dual 16-Bit Multiplying Dual Current Output Digital-to-Analog Converter with Parallel Interface, -55 to +125 degC, RU-38, Tube; Generic Part Number: AD5547; Manufacturer: Analog Devices; PartNumber: AD5547SRU-EP; # DAC Outputs: 2; Max V+: 5.5V; Op Pwr Diss: 55µW; Resolution (Bits): 16; Settling Time: 500ns; Single Supply: Yes; DatasheetVersion: Rev.0; PackageVersion: Mar-2003; PackageReference: RU-38; PackageDescription: 38-Lead Thin Shrink Small Outline Package [TSSOP]; Supplier 1: Mouser; Supplier Part Number 1: N/A; Packing: Tube; RoHS: N; Mounting Technology: Surface Mount; Code_JEDEC: MS-153BD-1; ComponentLink1Description: Manufacturer URL; ComponentLink1URL: http://www.analog.com/en/index.html; ComponentLink2Description: Datasheet; ComponentLink2URL: http://www.analog.com/static/imported-files/data_sheets/AD5547-EP.pdf; ComponentLink3Description: Package Specification; ComponentLink3URL: http://www.analog.com/static/imported-files/packages/36817415413609854197792024125RU38.pdf; ComponentLink4Description: Product URL; ComponentLink4URL: http://www.analog.com/en/digital-to-analog-converters/da-converters/ad5547/products/product.html; ComponentLink5Description: Reference Design URL; ComponentLink5URL: http://www.analog.com/en/digital-to-analog-converters/da-converters/ad5547/products/product.html#prod_cross_sell
footprint RU-38_N (TSSOP, 38-Leads, Body 9.7x4.4mm, Pitch 0.5mm, IPC Medium Density)
footprint RU-38_L (TSSOP, 38-Leads, Body 9.7x4.4mm, Pitch 0.5mm, IPC High Density)
footprint RU-38_M (TSSOP, 38-Leads, Body 9.7x4.4mm, Pitch 0.5mm, IPC Low Density)
pins: 1 D1 (in) "Digital Input Data Bit D1. Signal level must be =< VDD + 0.3 V.", 2 D0 (in) "Digital Input Data Bit D0. Signal level must be =< VDD + 0.3 V.", 3 ROFSA (in) "Bipolar Offset Resistor A. Accepts up to +/-18 V. In 2-quadrant mode, ROFSA ties to RFBA. In 4-quadrant mode, ROFSA ties to R1A and the external reference.", 4 RFBA (in) "Internal Matching Feedback Resistor A. Connects to the external op amp for I-to-V conversion.", 5 R1A "4-Quandrant Resistor. In 2-quadrant mode, R1A shorts to the VREFA pin. In 4-quadrant mode, R1A ties to ROFSA. Do not connect when operating in unipolar mode.", 6 RCOMA "Center Tap Point of the Two 4-Quadrant Resistors, R1A and R2A. In 4-quadrant mode, RCOMA ties to the inverting node of the reference amplifier. In 2-quadrant mode, RCOMA shorts to the associated VREFA pin. Do not connect if (See Datasheet)", 7 VREFA (in) "DAC A Reference Input in 2-Quadrant Mode, R2 Terminal in 4-Quadrant Mode. In 2-quadrant mode, VREFA is the reference input with constant input resistance vs. code. In 4-quadrant mode, VREFA is driven by the external (See Datasheet)", 8 IOUTA (out) "DAC A Current Output. Connects to the inverting terminal of external precision I-to-V op amp for voltage output.", 9 AGNDA (power) "DAC A Analog Ground.", 10 DGND (power) "Digital Ground.", 11 AGNDB (power) "DAC B Analog Ground.", 12 IOUTB (out) "DAC B Current Output. Connects to inverting terminal of external precision I-to-V op amp for voltage output.", 13 VREFB (in) "DAC B Reference Input Pin. Establishes DAC full-scale voltage. Constant input resistance vs. code. If configured with an external op amp for 4-quadrant multiplying, VREFB becomes -VREF.", 14 RCOMB "Center Tap Point of the Two 4-Quadrant Resistors, R1B and R2B. In 4-quadrant mode, RCOMB ties to the inverting node of the reference amplifier. In 2-quadrant mode, RCOMB shorts to the VREFB pin. Do not connect if operating (See Datasheet)", 15 R1B "4-Quandrant Resistor. In 2-quadrant mode, R1B shorts to the VREFB pin. In 4-quadrant mode, R1B ties to ROFSB. Do not connect if operating in unipolar mode.", 16 RFBB (in) "Internal Matching Feedback Resistor B. Connects to external op amp for I-to-V conversion.", 17 ROFSB (in) "Bipolar Offset Resistor B. Accepts up to +/-18 V. In 2-quadrant mode, ROFSB ties to RFBB. In 4-quadrant mode, ROFSB ties to R1B and an external reference.", 18 ~{WR} (in) "Write Control Digital Input In, Active Low. W\R\ transfers shift register data to the DAC register on the rising edge. Signal level must be =<VDD + 0.3 V.", 19 A0 (in) "Address Pin 0. Signal level must be =<VDD + 0.3 V.", 20 A1 (in) "Address Pin 1. Signal level must be =<VDD + 0.3 V.", 21 LDAC (in) "Digital Input Load DAC Control. Signal level must be =<VDD + 0.3 V.", 22 MSB (in) "Power-On Reset State. MSB = 0 corresponds to zero-scale reset; MSB = 1 corresponds to midscale reset. The signal level must be =<VDD + 0.3 V.", 23 ~{RS} (in) "Active low resets both input and DAC registers. Resets to zero-scale if MSB = 0 and resets to midscale if MSB = 1. Signal level must be =<VDD + 0.3 V.", 24 D15 (in) "Digital Input Data Bit D15. Signal level must be =< VDD + 0.3 V.", 25 D14 (in) "Digital Input Data Bit D14. Signal level must be =< VDD + 0.3 V.", 26 D13 (in) "Digital Input Data Bit D13. Signal level must be =< VDD + 0.3 V.", 27 D12 (in) "Digital Input Data Bit D12. Signal level must be =< VDD + 0.3 V.", 28 D11 (in) "Digital Input Data Bit D11. Signal level must be =< VDD + 0.3 V.", 29 VDD (power) "Positive Power Supply Input. The specified range of operation is 2.7 V to 5.5 V.", 30 D10 (in) "Digital Input Data Bit D10. Signal level must be =< VDD + 0.3 V.", 31 D9 (in) "Digital Input Data Bit D9. Signal level must be =< VDD + 0.3 V.", 32 D8 (in) "Digital Input Data Bit D8. Signal level must be =< VDD + 0.3 V.", 33 D7 (in) "Digital Input Data Bit D7. Signal level must be =< VDD + 0.3 V.", 34 D6 (in) "Digital Input Data Bit D6. Signal level must be =< VDD + 0.3 V.", 35 D5 (in) "Digital Input Data Bit D5. Signal level must be =< VDD + 0.3 V.", 36 D4 (in) "Digital Input Data Bit D4. Signal level must be =< VDD + 0.3 V.", 37 D3 (in) "Digital Input Data Bit D3. Signal level must be =< VDD + 0.3 V.", 38 D2 (in) "Digital Input Data Bit D2. Signal level must be =< VDD + 0.3 V."

## AD5551BR
designator U?
Single 14-Bit Digital-to-Analog Converter with Serial Interface, 2.7 to 5.5 V, -40 to +85 degC, R-8, Tube; Generic Part Number: AD5551; Manufacturer: Analog Devices; PartNumber: AD5551BR; # DAC Outputs: 1; Max V+: 5.5V; Op Pwr Diss: 6.05mW; Resolution (Bits): 14; Settling Time: 1µs; Single Supply: Yes; DatasheetVersion: Rev.A; PackageVersion: 060506-A; PackageReference: R-8; PackageDescription: 8-Lead Standard Small Outline Package [SOIC_N] Narrow Body; Supplier 1: Digi-Key; Supplier Part Number 1: AD5551BR-ND; Supplier 2: Mouser; Supplier Part Number 2: 584-AD5551BR; Packing: Tube; RoHS: N; Mounting Technology: Surface Mount; Code_JEDEC: MS-012-AA; Code_IPC: SOIC127P600-8; ComponentLink1Description: Manufacturer URL; ComponentLink1URL: http://www.analog.com/en/index.html; ComponentLink2Description: Datasheet; ComponentLink2URL: http://www.analog.com/static/imported-files/data_sheets/AD5551_5552.pdf; ComponentLink3Description: Package Specification; ComponentLink3URL: http://www.analog.com/static/imported-files/packages/PKG_PDF/SOIC_Narrow%20(R)/R_8.pdf; ComponentLink4Description: Product URL; ComponentLink4URL: http://www.analog.com/en/digital-to-analog-converters/da-converters/ad5551/products/product.html
footprint R-8_N (SOIC, 8-Leads, Body 4.9x3.9mm, Pitch 1.27mm, IPC Medium Density)
footprint R-8_L (SOIC, 8-Leads, Body 4.9x3.9mm, Pitch 1.27mm, IPC High Density)
footprint R-8_M (SOIC, 8-Leads, Body 4.9x3.9mm, Pitch 1.27mm, IPC Low Density)
pins: 1 VOUT (out) "Analog Output Voltage from the DAC.", 2 AGND (power) "Ground Reference Point for Analog Circuitry.", 3 VREF (in) "This is the voltage reference input for the DAC. Connect to external reference ranges from 2 V to VDD.", 4 ~{CS} (in) "This is an active low-logic input signal. The chip select signal is used to frame the serial data input.", 5 SCLK (in) "Clock Input. Data is clocked into the input register on the rising edge of SCLK. Duty cycle must be between 40% and 60%.", 6 DIN (in) "Serial Data Input. This device accepts 14-bit words. Data is clocked into the input register on the rising edge of SCLK.", 7 DGND (power) "Digital Ground. Ground reference for digital circuitry.", 8 VDD (power) "Analog Supply Voltage, 2.7 V to 5.5 V +/- 10%."

## AD5551BR-REEL7
designator U?
Single 14-Bit Digital-to-Analog Converter with Serial Interface, 2.7 to 5.5 V, -40 to +85 degC, R-8, Reel; Generic Part Number: AD5551; Manufacturer: Analog Devices; PartNumber: AD5551BR-REEL7; # DAC Outputs: 1; Max V+: 5.5V; Op Pwr Diss: 6.05mW; Resolution (Bits): 14; Settling Time: 1µs; Single Supply: Yes; DatasheetVersion: Rev.A; PackageVersion: 060506-A; PackageReference: R-8; PackageDescription: 8-Lead Standard Small Outline Package [SOIC_N] Narrow Body; Supplier 1: Mouser; Supplier Part Number 1: N/A; Packing: Reel; RoHS: N; Mounting Technology: Surface Mount; Code_JEDEC: MS-012-AA; Code_IPC: SOIC127P600-8; ComponentLink1Description: Manufacturer URL; ComponentLink1URL: http://www.analog.com/en/index.html; ComponentLink2Description: Datasheet; ComponentLink2URL: http://www.analog.com/static/imported-files/data_sheets/AD5551_5552.pdf; ComponentLink3Description: Package Specification; ComponentLink3URL: http://www.analog.com/static/imported-files/packages/PKG_PDF/SOIC_Narrow%20(R)/R_8.pdf; ComponentLink4Description: Product URL; ComponentLink4URL: http://www.analog.com/en/digital-to-analog-converters/da-converters/ad5551/products/product.html
footprint R-8_N (SOIC, 8-Leads, Body 4.9x3.9mm, Pitch 1.27mm, IPC Medium Density)
footprint R-8_L (SOIC, 8-Leads, Body 4.9x3.9mm, Pitch 1.27mm, IPC High Density)
footprint R-8_M (SOIC, 8-Leads, Body 4.9x3.9mm, Pitch 1.27mm, IPC Low Density)
pins: 1 VOUT (out) "Analog Output Voltage from the DAC.", 2 AGND (power) "Ground Reference Point for Analog Circuitry.", 3 VREF (in) "This is the voltage reference input for the DAC. Connect to external reference ranges from 2 V to VDD.", 4 ~{CS} (in) "This is an active low-logic input signal. The chip select signal is used to frame the serial data input.", 5 SCLK (in) "Clock Input. Data is clocked into the input register on the rising edge of SCLK. Duty cycle must be between 40% and 60%.", 6 DIN (in) "Serial Data Input. This device accepts 14-bit words. Data is clocked into the input register on the rising edge of SCLK.", 7 DGND (power) "Digital Ground. Ground reference for digital circuitry.", 8 VDD (power) "Analog Supply Voltage, 2.7 V to 5.5 V +/- 10%."

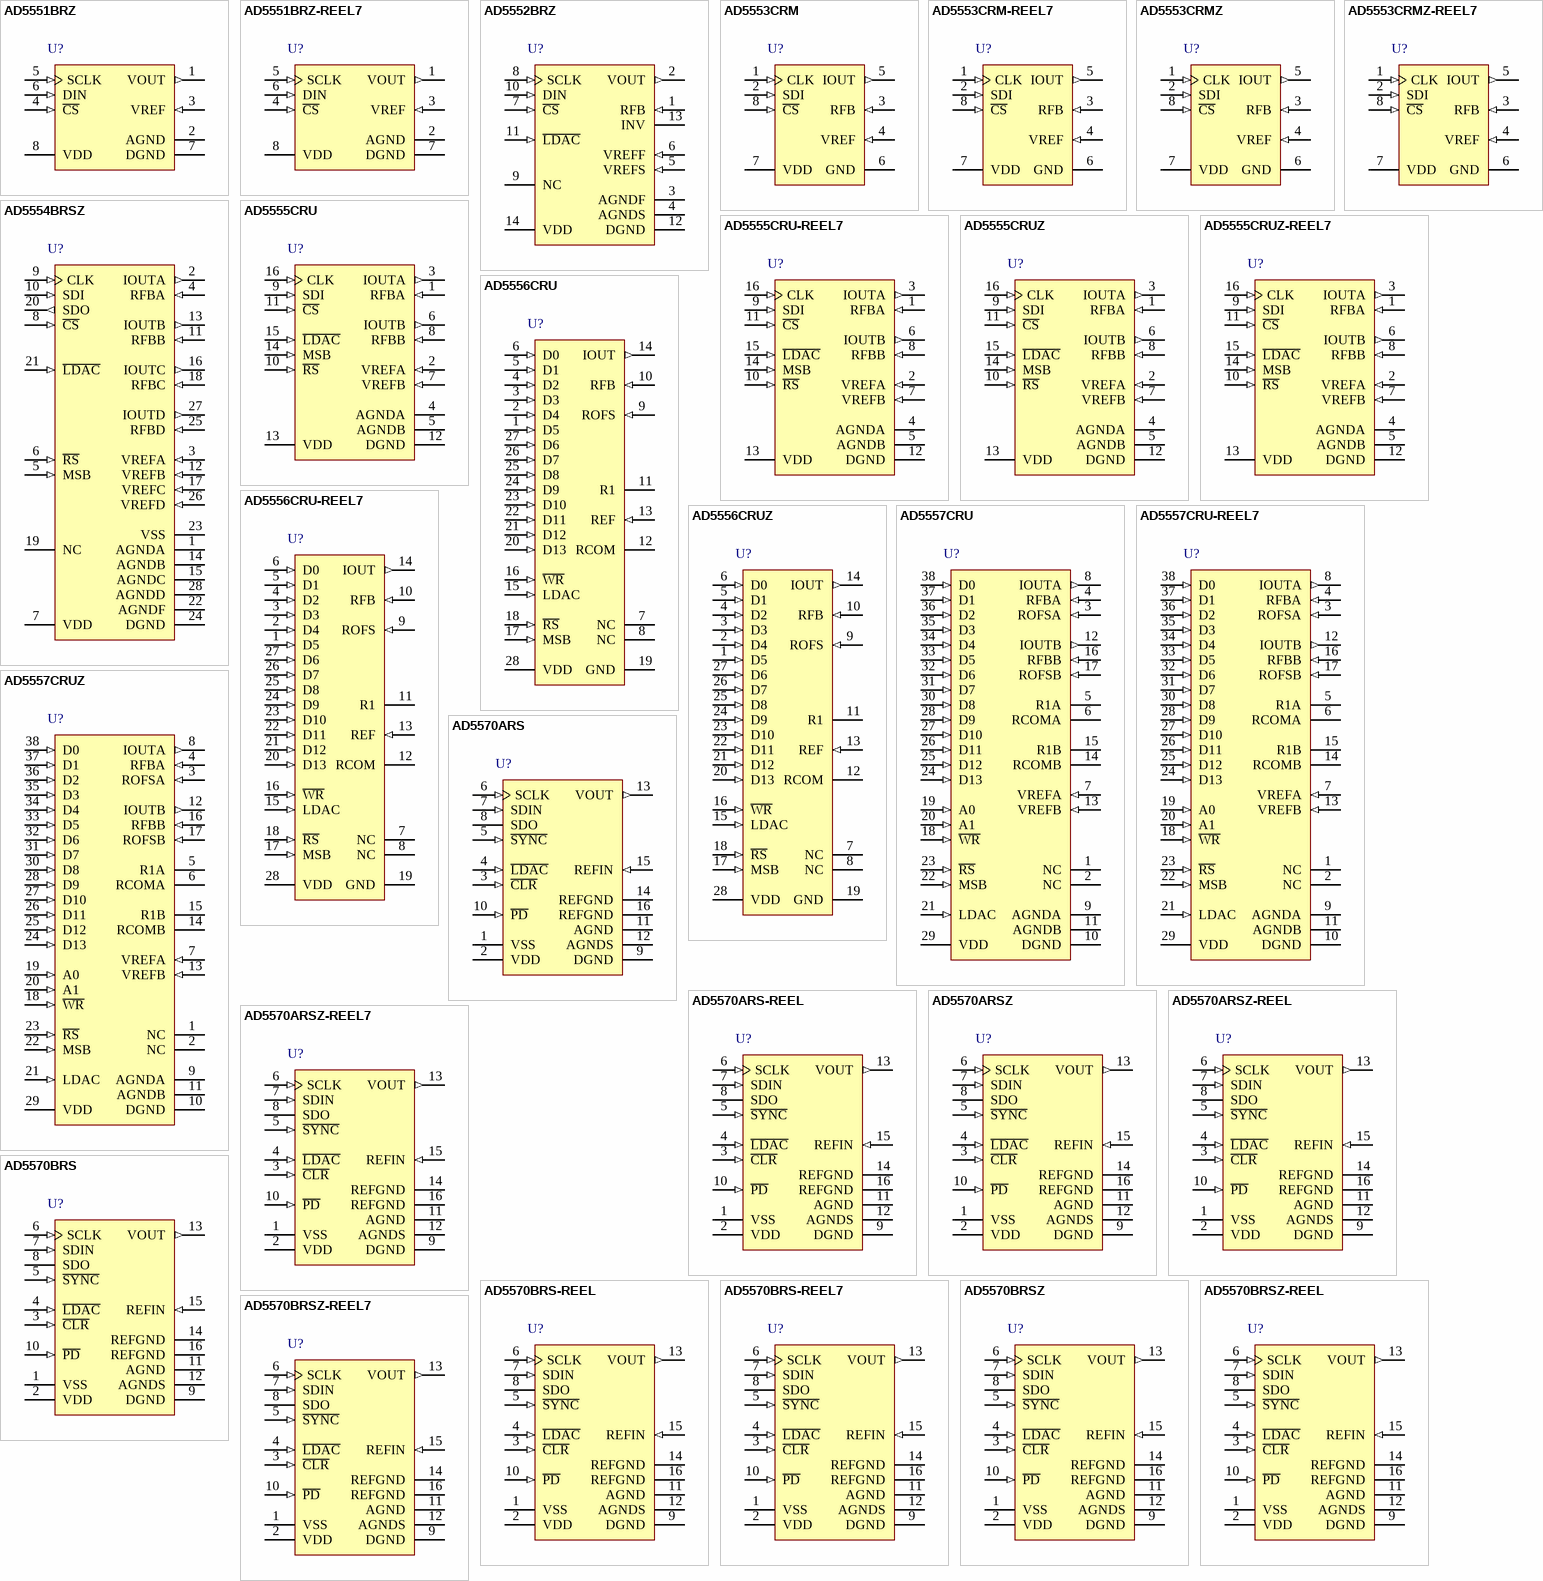
[diagram p41: symbols AD5551BRZ to AD5570BRSZ-REEL7]

## AD5551BRZ
designator U?
Single 14-Bit Digital-to-Analog Converter with Serial Interface, 2.7 to 5.5 V, -40 to +85 degC, R-8, Pb-Free, Tube; Generic Part Number: AD5551; Manufacturer: Analog Devices; PartNumber: AD5551BRZ; # DAC Outputs: 1; Max V+: 5.5V; Op Pwr Diss: 6.05mW; Resolution (Bits): 14; Settling Time: 1µs; Single Supply: Yes; DatasheetVersion: Rev.A; PackageVersion: 060506-A; PackageReference: R-8; PackageDescription: 8-Lead Standard Small Outline Package [SOIC_N] Narrow Body; Supplier 1: Digi-Key; Supplier Part Number 1: AD5551BRZ-ND; Supplier 2: Farnell; Supplier Part Number 2: 9604219; Supplier 3: Newark; Supplier Part Number 3: 59K4222; Supplier 4: Mouser; Supplier Part Number 4: 584-AD5551BRZ; Packing: Tube; RoHS: Y; Mounting Technology: Surface Mount; Code_JEDEC: MS-012-AA; Code_IPC: SOIC127P600-8; ComponentLink1Description: Manufacturer URL; ComponentLink1URL: http://www.analog.com/en/index.html; ComponentLink2Description: Datasheet; ComponentLink2URL: http://www.analog.com/static/imported-files/data_sheets/AD5551_5552.pdf; ComponentLink3Description: Package Specification; ComponentLink3URL: http://www.analog.com/static/imported-files/packages/PKG_PDF/SOIC_Narrow%20(R)/R_8.pdf; ComponentLink4Description: Product URL; ComponentLink4URL: http://www.analog.com/en/digital-to-analog-converters/da-converters/ad5551/products/product.html
footprint R-8_N (SOIC, 8-Leads, Body 4.9x3.9mm, Pitch 1.27mm, IPC Medium Density)
footprint R-8_L (SOIC, 8-Leads, Body 4.9x3.9mm, Pitch 1.27mm, IPC High Density)
footprint R-8_M (SOIC, 8-Leads, Body 4.9x3.9mm, Pitch 1.27mm, IPC Low Density)
pins: 1 VOUT (out) "Analog Output Voltage from the DAC.", 2 AGND (power) "Ground Reference Point for Analog Circuitry.", 3 VREF (in) "This is the voltage reference input for the DAC. Connect to external reference ranges from 2 V to VDD.", 4 ~{CS} (in) "This is an active low-logic input signal. The chip select signal is used to frame the serial data input.", 5 SCLK (in) "Clock Input. Data is clocked into the input register on the rising edge of SCLK. Duty cycle must be between 40% and 60%.", 6 DIN (in) "Serial Data Input. This device accepts 14-bit words. Data is clocked into the input register on the rising edge of SCLK.", 7 DGND (power) "Digital Ground. Ground reference for digital circuitry.", 8 VDD (power) "Analog Supply Voltage, 2.7 V to 5.5 V +/- 10%."

## AD5551BRZ-REEL7
designator U?
Single 14-Bit Digital-to-Analog Converter with Serial Interface, 2.7 to 5.5 V, -40 to +85 degC, R-8, Pb-Free, Reel; Generic Part Number: AD5551; Manufacturer: Analog Devices; PartNumber: AD5551BRZ-REEL7; # DAC Outputs: 1; Max V+: 5.5V; Op Pwr Diss: 6.05mW; Resolution (Bits): 14; Settling Time: 1µs; Single Supply: Yes; DatasheetVersion: Rev.A; PackageVersion: 060506-A; PackageReference: R-8; PackageDescription: 8-Lead Standard Small Outline Package [SOIC_N] Narrow Body; Supplier 1: Digi-Key; Supplier Part Number 1: AD5551BRZ-REEL7-ND; Supplier 2: Newark; Supplier Part Number 2: 59K4223; Supplier 3: Mouser; Supplier Part Number 3: 584-AD5551BRZ-R7; Packing: Reel; RoHS: Y; Mounting Technology: Surface Mount; Code_JEDEC: MS-012-AA; Code_IPC: SOIC127P600-8; ComponentLink1Description: Manufacturer URL; ComponentLink1URL: http://www.analog.com/en/index.html; ComponentLink2Description: Datasheet; ComponentLink2URL: http://www.analog.com/static/imported-files/data_sheets/AD5551_5552.pdf; ComponentLink3Description: Package Specification; ComponentLink3URL: http://www.analog.com/static/imported-files/packages/PKG_PDF/SOIC_Narrow%20(R)/R_8.pdf; ComponentLink4Description: Product URL; ComponentLink4URL: http://www.analog.com/en/digital-to-analog-converters/da-converters/ad5551/products/product.html
footprint R-8_N (SOIC, 8-Leads, Body 4.9x3.9mm, Pitch 1.27mm, IPC Medium Density)
footprint R-8_L (SOIC, 8-Leads, Body 4.9x3.9mm, Pitch 1.27mm, IPC High Density)
footprint R-8_M (SOIC, 8-Leads, Body 4.9x3.9mm, Pitch 1.27mm, IPC Low Density)
pins: 1 VOUT (out) "Analog Output Voltage from the DAC.", 2 AGND (power) "Ground Reference Point for Analog Circuitry.", 3 VREF (in) "This is the voltage reference input for the DAC. Connect to external reference ranges from 2 V to VDD.", 4 ~{CS} (in) "This is an active low-logic input signal. The chip select signal is used to frame the serial data input.", 5 SCLK (in) "Clock Input. Data is clocked into the input register on the rising edge of SCLK. Duty cycle must be between 40% and 60%.", 6 DIN (in) "Serial Data Input. This device accepts 14-bit words. Data is clocked into the input register on the rising edge of SCLK.", 7 DGND (power) "Digital Ground. Ground reference for digital circuitry.", 8 VDD (power) "Analog Supply Voltage, 2.7 V to 5.5 V +/- 10%."